# Altium footprint library 691 701 320 0xx B.PcbLib: 11 footprints
Each footprint in its own frame and in the unit in brackets; x right, y up, seen from the top. Pads: shape width x height; smd on the part's side, far side on the other; paste and mask are expansions set on the pad; w line width, h text height; cw(c..) or ccw(c..) is an arc to the next point about the centre after c.
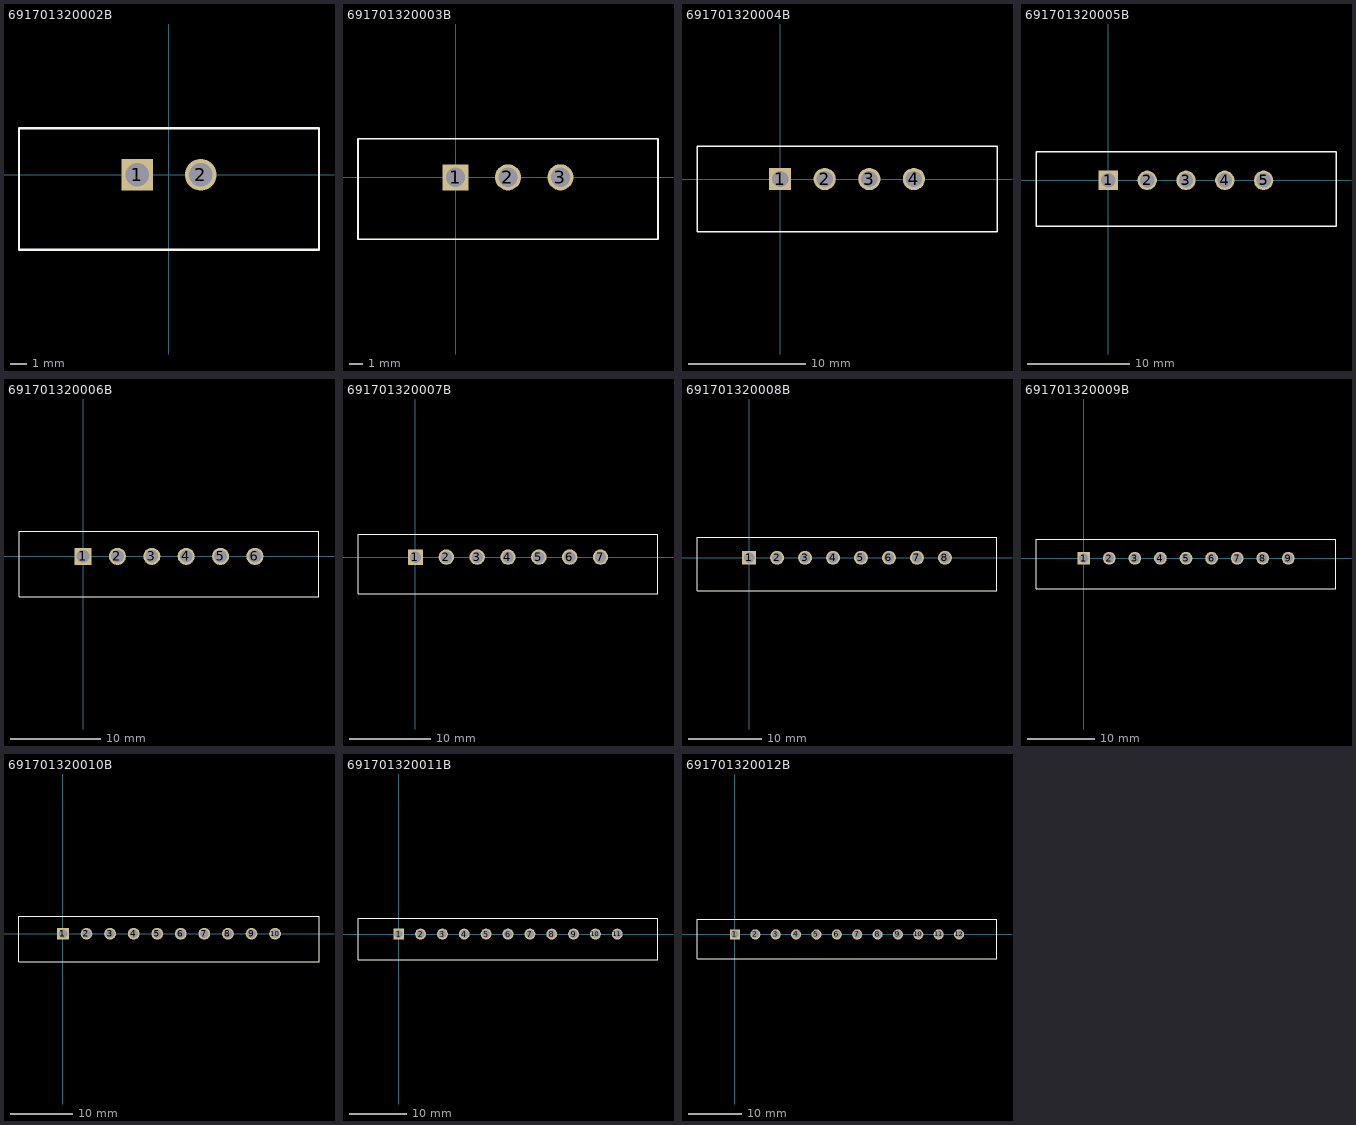
[diagram p0: the footprints below, top view; thin cyan lines are the x and y axes]

## 691701320002B [mm] "THR - 3,81mm - PCB Vertical Flange - 02p"
height 9.2
pads (2):
  rect 1.9x1.9 hole 1.4: 1(-1.905,0)
  round 1.9 hole 1.4: 2(1.905,0)
Top Overlay:
  lines w0.127: -9.005,-4.5 -9.005,2.8 ; -9.005,-4.5 9.005,-4.5 ; -9.005,-4.5 9.005,-4.5 ; -9.005,-4.5 -9.005,2.8 ; -9.005,2.8 9.005,2.8 ; -9.005,2.8 9.005,2.8 ; 9.005,-4.5 9.005,2.8 ; 9.005,-4.5 9.005,2.8
3D body: height 9.21, standoff -2.59, extent -9.005,-4.5 9.005,2.8

## 691701320003B [mm] "THR - 3,81mm - PCB Vertical Flange - 03p"
height 9.2
pads (3):
  rect 1.9x1.9 hole 1.4: 1(0,0)
  round 1.9 hole 1.4: 2(3.81,0) 3(7.62,0)
Top Overlay:
  lines w0.127: -7.1,-4.5 -7.1,2.8 ; -7.1,-4.5 14.72,-4.5 ; -7.1,-4.5 14.72,-4.5 ; -7.1,-4.5 -7.1,2.8 ; -7.1,2.8 14.72,2.8 ; -7.1,2.8 14.72,2.8 ; 14.72,-4.5 14.72,2.8 ; 14.72,-4.5 14.72,2.8
3D body: height 9.21, standoff -2.59, extent -7.1,-4.5 14.72,2.8

## 691701320004B [mm] "THR - 3,81mm - PCB Vertical Flange - 04p"
height 9.2
pads (4):
  rect 1.9x1.9 hole 1.4: 1(0,0)
  round 1.9 hole 1.4: 2(3.81,0) 3(7.62,0) 4(11.43,0)
Top Overlay:
  lines w0.127: -7.1,-4.5 -7.1,2.8 ; -7.1,-4.5 18.53,-4.5 ; -7.1,-4.5 18.53,-4.5 ; -7.1,-4.5 -7.1,2.8 ; -7.1,2.8 18.53,2.8 ; -7.1,2.8 18.53,2.8 ; 18.53,-4.5 18.53,2.8 ; 18.53,-4.5 18.53,2.8
3D body: height 9.21, standoff -2.59, extent -7.1,-4.5 18.53,2.8

## 691701320005B [mm] "THR - 3,81mm - PCB Vertical Flange - 05p"
height 9.2
pads (5):
  rect 1.9x1.9 hole 1.4: 1(0,0)
  round 1.9 hole 1.4: 2(3.81,0) 3(7.62,0) 4(11.43,0) 5(15.24,0)
Top Overlay:
  lines w0.127: -7.1,-4.5 -7.1,2.8 ; -7.1,-4.5 22.34,-4.5 ; -7.1,-4.5 22.34,-4.5 ; -7.1,-4.5 -7.1,2.8 ; -7.1,2.8 22.34,2.8 ; -7.1,2.8 22.34,2.8 ; 22.34,-4.5 22.34,2.8 ; 22.34,-4.5 22.34,2.8
3D body: height 9.21, standoff -2.59, extent -7.1,-4.5 22.34,2.8

## 691701320006B [mm] "THR - 3,81mm - PCB Vertical Flange - 06p"
height 9.2
pads (6):
  rect 1.9x1.9 hole 1.4: 1(0,0)
  round 1.9 hole 1.4: 2(3.81,0) 3(7.62,0) 4(11.43,0) 5(15.24,0) 6(19.05,0)
Top Overlay:
  lines w0.127: -7.1,-4.5 -7.1,2.8 ; -7.1,-4.5 26.15,-4.5 ; -7.1,-4.5 26.15,-4.5 ; -7.1,-4.5 -7.1,2.8 ; -7.1,2.8 26.15,2.8 ; -7.1,2.8 26.15,2.8 ; 26.15,-4.5 26.15,2.8 ; 26.15,-4.5 26.15,2.8
3D body: height 9.21, standoff -2.59, extent -7.1,-4.5 26.15,2.8

## 691701320007B [mm] "THR - 3,81mm - PCB Vertical Flange - 07p"
height 9.2
pads (7):
  rect 1.9x1.9 hole 1.4: 1(0,0)
  round 1.9 hole 1.4: 2(3.81,0) 3(7.62,0) 4(11.43,0) 5(15.24,0) 6(19.05,0) 7(22.86,0)
Top Overlay:
  lines w0.127: -7.1,-4.5 -7.1,2.8 ; -7.1,-4.5 29.96,-4.5 ; -7.1,-4.5 29.96,-4.5 ; -7.1,-4.5 -7.1,2.8 ; -7.1,2.8 29.96,2.8 ; -7.1,2.8 29.96,2.8 ; 29.96,-4.5 29.96,2.8 ; 29.96,-4.5 29.96,2.8
3D body: height 9.21, standoff -2.59, extent -7.1,-4.5 29.96,2.8

## 691701320008B [mm] "THR - 3,81mm - PCB Vertical Flange - 08p"
height 9.2
pads (8):
  rect 1.9x1.9 hole 1.4: 1(0,0)
  round 1.9 hole 1.4: 2(3.81,0) 3(7.62,0) 4(11.43,0) 5(15.24,0) 6(19.05,0) 7(22.86,0) 8(26.67,0)
Top Overlay:
  lines w0.127: -7.1,-4.5 -7.1,2.8 ; -7.1,-4.5 33.77,-4.5 ; -7.1,-4.5 33.77,-4.5 ; -7.1,-4.5 -7.1,2.8 ; -7.1,2.8 33.77,2.8 ; -7.1,2.8 33.77,2.8 ; 33.77,-4.5 33.77,2.8 ; 33.77,-4.5 33.77,2.8
3D body: height 9.21, standoff -2.59, extent -7.1,-4.5 33.77,2.8

## 691701320009B [mm] "THR - 3,81mm - PCB Vertical Flange - 09p"
height 9.2
pads (9):
  rect 1.9x1.9 hole 1.4: 1(0,0)
  round 1.9 hole 1.4: 2(3.81,0) 3(7.62,0) 4(11.43,0) 5(15.24,0) 6(19.05,0) 7(22.86,0) 8(26.67,0) 9(30.48,0)
Top Overlay:
  lines w0.127: -7.1,-4.5 -7.1,2.8 ; -7.1,-4.5 37.58,-4.5 ; -7.1,-4.5 37.58,-4.5 ; -7.1,-4.5 -7.1,2.8 ; -7.1,2.8 37.58,2.8 ; -7.1,2.8 37.58,2.8 ; 37.58,-4.5 37.58,2.8 ; 37.58,-4.5 37.58,2.8
3D body: height 9.21, standoff -2.59, extent -7.1,-4.5 37.58,2.8

## 691701320010B [mm] "THR - 3,81mm - PCB Vertical Flange - 10p"
height 9.2
pads (10):
  rect 1.9x1.9 hole 1.4: 1(0,0)
  round 1.9 hole 1.4: 2(3.81,0) 3(7.62,0) 4(11.43,0) 5(15.24,0) 6(19.05,0) 7(22.86,0) 8(26.67,0) 9(30.48,0) 10(34.29,0)
Top Overlay:
  lines w0.127: -7.1,-4.5 -7.1,2.8 ; -7.1,-4.5 41.39,-4.5 ; -7.1,-4.5 41.39,-4.5 ; -7.1,-4.5 -7.1,2.8 ; -7.1,2.8 41.39,2.8 ; -7.1,2.8 41.39,2.8 ; 41.39,-4.5 41.39,2.8 ; 41.39,-4.5 41.39,2.8
3D body: height 9.21, standoff -2.59, extent -7.1,-4.5 41.39,2.8

## 691701320011B [mm] "THR - 3,81mm - PCB Vertical Flange - 11p"
height 9.2
pads (11):
  rect 1.9x1.9 hole 1.4: 1(0,0)
  round 1.9 hole 1.4: 2(3.81,0) 3(7.62,0) 4(11.43,0) 5(15.24,0) 6(19.05,0) 7(22.86,0) 8(26.67,0) 9(30.48,0) 10(34.29,0) 11(38.1,0)
Top Overlay:
  lines w0.127: -7.1,-4.5 -7.1,2.8 ; -7.1,-4.5 45.2,-4.5 ; -7.1,-4.5 45.2,-4.5 ; -7.1,-4.5 -7.1,2.8 ; -7.1,2.8 45.2,2.8 ; -7.1,2.8 45.2,2.8 ; 45.2,-4.5 45.2,2.8 ; 45.2,-4.5 45.2,2.8
3D body: height 9.21, standoff -2.59, extent -7.1,-4.5 45.2,2.8

## 691701320012B [mm] "THR - 3,81mm - PCB Vertical Flange - 12p"
height 9.2
pads (12):
  rect 1.9x1.9 hole 1.4: 1(0,0)
  round 1.9 hole 1.4: 2(3.81,0) 3(7.62,0) 4(11.43,0) 5(15.24,0) 6(19.05,0) 7(22.86,0) 8(26.67,0) 9(30.48,0) 10(34.29,0) 11(38.1,0) 12(41.91,0)
Top Overlay:
  lines w0.127: -7.1,-4.5 -7.1,2.8 ; -7.1,-4.5 49.01,-4.5 ; -7.1,-4.5 49.01,-4.5 ; -7.1,-4.5 -7.1,2.8 ; -7.1,2.8 49.01,2.8 ; -7.1,2.8 49.01,2.8 ; 49.01,-4.5 49.01,2.8 ; 49.01,-4.5 49.01,2.8
3D body: height 9.21, standoff -2.59, extent -7.1,-4.5 49.01,2.8